# EAGLE library part MSP430JTAGHV (library JTAG)
JTAG connector 14pin vertical
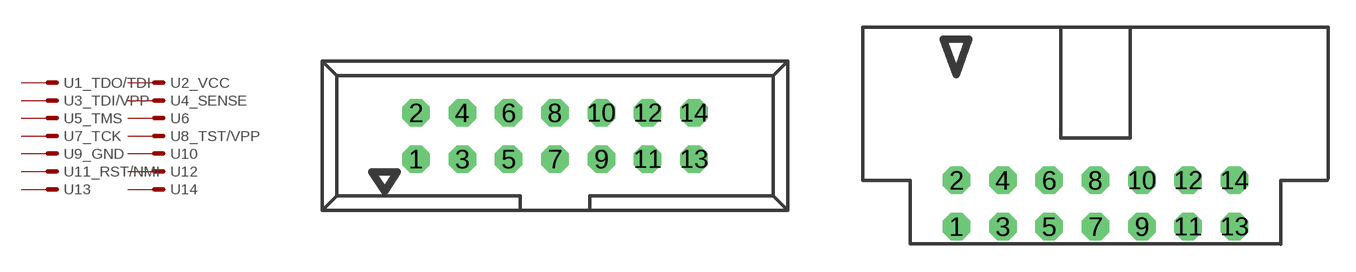
[diagram p0: symbol with the pads of MSP430JTAGH; footprints MSP430JTAGH, MSP430JTAGV]

Designator prefix -; gates 1_TDO/TDI=JTAGPIN 2_VCC=JTAGPIN 3_TDI/VPP=JTAGPIN 4_SENSE=JTAGPIN 5_TMS=JTAGPIN 6=JTAGPIN 7_TCK=JTAGPIN 8_TST/VPP=JTAGPIN 9_GND=JTAGPIN 10=JTAGPIN 11_RST/NMI=JTAGPIN 12=JTAGPIN 13=JTAGPIN 14=JTAGPIN

## MSP430JTAGHVH  [MSP430JTAGH]
1  1_TDO/TDI:S  pas
2  2_VCC:S  pas
3  3_TDI/VPP:S  pas
4  4_SENSE:S  pas
5  5_TMS:S  pas
6  6:S  pas
7  7_TCK:S  pas
8  8_TST/VPP:S  pas
9  9_GND:S  pas
10  10:S  pas
11  11_RST/NMI:S  pas
12  12:S  pas
13  13:S  pas
14  14:S  pas

## MSP430JTAGHVV  [MSP430JTAGV]
Pads as for MSP430JTAGH

## Footprint MSP430JTAGH (pad centres in mm)
drill 1 octagon: 1 -7.62,-1.27; 2 -7.62,1.27; 3 -5.08,-1.27; 4 -5.08,1.27; 5 -2.54,-1.27; 6 -2.54,1.27; 7 0,-1.27; 8 0,1.27; 9 2.54,-1.27; 10 2.54,1.27; 11 5.08,-1.27; 12 5.08,1.27; 13 7.62,-1.27; 14 7.62,1.27

## Footprint MSP430JTAGV (pad centres in mm)
drill 1 octagon: 1 -7.62,-1.27; 2 -7.62,1.27; 3 -5.08,-1.27; 4 -5.08,1.27; 5 -2.54,-1.27; 6 -2.54,1.27; 7 0,-1.27; 8 0,1.27; 9 2.54,-1.27; 10 2.54,1.27; 11 5.08,-1.27; 12 5.08,1.27; 13 7.62,-1.27; 14 7.62,1.27